# Altium footprint library 220pF.PcbLib: 3 footprints
Each footprint in its own frame and in the unit in brackets; x right, y up, seen from the top. Pads: shape width x height; smd on the part's side, far side on the other; paste and mask are expansions set on the pad; w line width, h text height; cw(c..) or ccw(c..) is an arc to the next point about the centre after c.
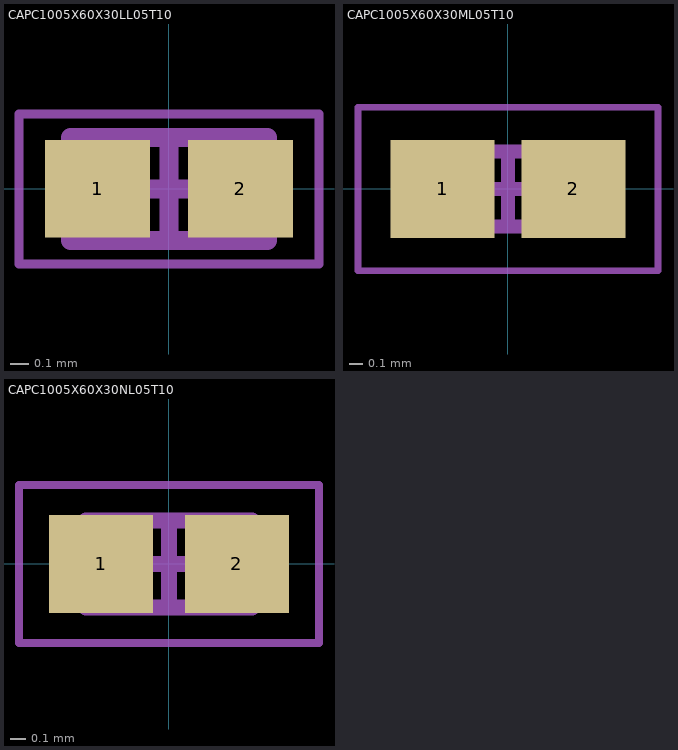
[diagram p0: the footprints below, top view; thin cyan lines are the x and y axes]

## CAPC1005X60X30LL05T10 [mm] "Chip Capacitor, 2-Leads, Body 1.00x0.50mm, IPC High Density"
height 0.6
pads (2):
  rect 0.56x0.52 smd: 1(-0.38,0) 2(0.38,0)
Mechanical 13:
  lines w0.1: -0.525,-0.275 -0.525,0.275 0.525,0.275 0.525,-0.275 -0.525,-0.275
Mechanical 15:
  lines w0.05: -0.8,-0.4 -0.8,0.4 0.8,0.4 0.8,-0.4 -0.8,-0.4
  lines w0.1: -0.275,0 0.275,0 ; 0,-0.275 0,0.275
3D body: height 0.6, standoff 0, extent -0.225,-0.275 0.225,0.275
3D body: height 0.6, standoff 0, extent -0.525,-0.275 -0.225,0.275
3D body: height 0.6, standoff 0, extent 0.225,-0.275 0.525,0.275

## CAPC1005X60X30ML05T10 [mm] "Chip Capacitor, 2-Leads, Body 1.00x0.50mm, IPC Low Density"
height 0.6
pads (2):
  rect 0.76x0.72 smd: 1(-0.48,0) 2(0.48,0)
Mechanical 13:
  lines w0.1: -0.525,-0.275 -0.525,0.275 0.525,0.275 0.525,-0.275 -0.525,-0.275
Mechanical 15:
  lines w0.05: -1.1,-0.6 -1.1,0.6 1.1,0.6 1.1,-0.6 -1.1,-0.6
  lines w0.1: -0.275,0 0.275,0 ; 0,-0.275 0,0.275
3D body: height 0.6, standoff 0, extent -0.225,-0.275 0.225,0.275
3D body: height 0.6, standoff 0, extent -0.525,-0.275 -0.225,0.275
3D body: height 0.6, standoff 0, extent 0.225,-0.275 0.525,0.275

## CAPC1005X60X30NL05T10 [mm] "Chip Capacitor, 2-Leads, Body 1.00x0.50mm, IPC Medium Density"
height 0.6
pads (2):
  rect 0.66x0.62 smd: 1(-0.43,0) 2(0.43,0)
Mechanical 13:
  lines w0.1: -0.525,-0.275 -0.525,0.275 0.525,0.275 0.525,-0.275 -0.525,-0.275
Mechanical 15:
  lines w0.05: -0.95,-0.5 -0.95,0.5 0.95,0.5 0.95,-0.5 -0.95,-0.5
  lines w0.1: -0.275,0 0.275,0 ; 0,-0.275 0,0.275
3D body: height 0.6, standoff 0, extent -0.225,-0.275 0.225,0.275
3D body: height 0.6, standoff 0, extent -0.525,-0.275 -0.225,0.275
3D body: height 0.6, standoff 0, extent 0.225,-0.275 0.525,0.275